# Altium footprint library 96BoardsComputeSoM.PcbLib: 2 footprints
Each footprint in its own frame and in the unit in brackets; x right, y up, seen from the top. Pads: shape width x height; smd on the part's side, far side on the other; paste and mask are expansions set on the pad; w line width, h text height; cw(c..) or ccw(c..) is an arc to the next point about the centre after c.
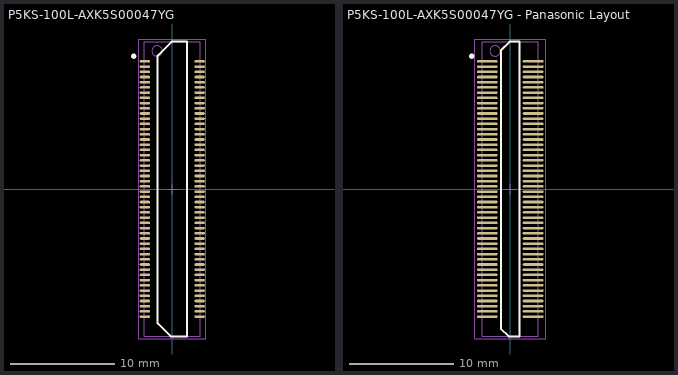
[diagram p0: the footprints below, top view; thin cyan lines are the x and y axes]

## P5KS-100L-AXK5S00047YG [mm] "Panasonic P5KS 0.5mm 100-pin Socket. No positioning bosses. Model AXK5S00047YG"
height 3.05
pads (100):
  oval 1x0.25 smd: 1(-2.625,12.25) 2(-2.625,11.75) 3(-2.625,11.25) 4(-2.625,10.75) 5(-2.625,10.25) 6(-2.625,9.75) 7(-2.625,9.25) 8(-2.625,8.75) 9(-2.625,8.25) 10(-2.625,7.75) 11(-2.625,7.25) 12(-2.625,6.75) 13(-2.625,6.25) 14(-2.625,5.75) 15(-2.625,5.25) 16(-2.625,4.75) 17(-2.625,4.25) 18(-2.625,3.75) 19(-2.625,3.25) 20(-2.625,2.75) 21(-2.625,2.25) 22(-2.625,1.75) 23(-2.625,1.25) 24(-2.625,0.75) 25(-2.625,0.25) 26(-2.625,-0.25) 27(-2.625,-0.75) 28(-2.625,-1.25) 29(-2.625,-1.75) 30(-2.625,-2.25) 31(-2.625,-2.75) 32(-2.625,-3.25) 33(-2.625,-3.75) 34(-2.625,-4.25) 35(-2.625,-4.75) 36(-2.625,-5.25) 37(-2.625,-5.75) 38(-2.625,-6.25) 39(-2.625,-6.75) 40(-2.625,-7.25) 41(-2.625,-7.75) 42(-2.625,-8.25) 43(-2.625,-8.75) 44(-2.625,-9.25) 45(-2.625,-9.75) 46(-2.625,-10.25) 47(-2.625,-10.75) 48(-2.625,-11.25) 49(-2.625,-11.75) 50(-2.625,-12.25) 51(2.625,12.25) 52(2.625,11.75) 53(2.625,11.25) 54(2.625,10.75) 55(2.625,10.25) 56(2.625,9.75) 57(2.625,9.25) 58(2.625,8.75) 59(2.625,8.25) 60(2.625,7.75) 61(2.625,7.25) 62(2.625,6.75) 63(2.625,6.25) 64(2.625,5.75) 65(2.625,5.25) 66(2.625,4.75) 67(2.625,4.25) 68(2.625,3.75) 69(2.625,3.25) 70(2.625,2.75) 71(2.625,2.25) 72(2.625,1.75) 73(2.625,1.25) 74(2.625,0.75) 75(2.625,0.25) 76(2.625,-0.25) 77(2.625,-0.75) 78(2.625,-1.25) 79(2.625,-1.75) 80(2.625,-2.25) 81(2.625,-2.75) 82(2.625,-3.25) 83(2.625,-3.75) 84(2.625,-4.25) 85(2.625,-4.75) 86(2.625,-5.25) 87(2.625,-5.75) 88(2.625,-6.25) 89(2.625,-6.75) 90(2.625,-7.25) 91(2.625,-7.75) 92(2.625,-8.25) 93(2.625,-8.75) 94(2.625,-9.25) 95(2.625,-9.75) 96(2.625,-10.25) 97(2.625,-10.75) 98(2.625,-11.25) 99(2.625,-11.75) 100(2.625,-12.25)
Top Overlay:
  circle w0.25: c-3.7,12.75 r0.125
  lines w0.2: -1.4,-12.9 -1.4,12.8 -0.05,14.15 1.4,14.15 1.4,-14.15 -0.15,-14.15 -1.4,-12.9
Mechanical 13:
  circle w0.1: c-1.45,13.25 r0.5
  lines w0.1: -2.7,-14.15 -2.7,14.15 2.7,14.15 2.7,-14.15 -2.7,-14.15
Mechanical 15:
  lines w0.05: -3.2,-14.4 -3.2,14.4 3.2,14.4 3.2,-14.4 -3.2,-14.4
  lines w0.1: -0.5,0 0.5,0 ; 0,-0.5 0,0.5
3D body "Panasonic.Socket.axk5s00047y.stp": height 3.05, standoff 0, extent -2.7,-14.1 2.7,14.1

## P5KS-100L-AXK5S00047YG - Panasonic Layout [mm] "Panasonic P5KS 0.5mm 100-pin Socket. No positioning bosses. Model AXK5S00047YG"
height 3.05
pads (100):
  oval 2x0.25 smd: 1(-2.2,12.25) 2(-2.2,11.75) 3(-2.2,11.25) 4(-2.2,10.75) 5(-2.2,10.25) 6(-2.2,9.75) 7(-2.2,9.25) 8(-2.2,8.75) 9(-2.2,8.25) 10(-2.2,7.75) 11(-2.2,7.25) 12(-2.2,6.75) 13(-2.2,6.25) 14(-2.2,5.75) 15(-2.2,5.25) 16(-2.2,4.75) 17(-2.2,4.25) 18(-2.2,3.75) 19(-2.2,3.25) 20(-2.2,2.75) 21(-2.2,2.25) 22(-2.2,1.75) 23(-2.2,1.25) 24(-2.2,0.75) 25(-2.2,0.25) 26(-2.2,-0.25) 27(-2.2,-0.75) 28(-2.2,-1.25) 29(-2.2,-1.75) 30(-2.2,-2.25) 31(-2.2,-2.75) 32(-2.2,-3.25) 33(-2.2,-3.75) 34(-2.2,-4.25) 35(-2.2,-4.75) 36(-2.2,-5.25) 37(-2.2,-5.75) 38(-2.2,-6.25) 39(-2.2,-6.75) 40(-2.2,-7.25) 41(-2.2,-7.75) 42(-2.2,-8.25) 43(-2.2,-8.75) 44(-2.2,-9.25) 45(-2.2,-9.75) 46(-2.2,-10.25) 47(-2.2,-10.75) 48(-2.2,-11.25) 49(-2.2,-11.75) 50(-2.2,-12.25) 51(2.2,12.25) 52(2.2,11.75) 53(2.2,11.25) 54(2.2,10.75) 55(2.2,10.25) 56(2.2,9.75) 57(2.2,9.25) 58(2.2,8.75) 59(2.2,8.25) 60(2.2,7.75) 61(2.2,7.25) 62(2.2,6.75) 63(2.2,6.25) 64(2.2,5.75) 65(2.2,5.25) 66(2.2,4.75) 67(2.2,4.25) 68(2.2,3.75) 69(2.2,3.25) 70(2.2,2.75) 71(2.2,2.25) 72(2.2,1.75) 73(2.2,1.25) 74(2.2,0.75) 75(2.2,0.25) 76(2.2,-0.25) 77(2.2,-0.75) 78(2.2,-1.25) 79(2.2,-1.75) 80(2.2,-2.25) 81(2.2,-2.75) 82(2.2,-3.25) 83(2.2,-3.75) 84(2.2,-4.25) 85(2.2,-4.75) 86(2.2,-5.25) 87(2.2,-5.75) 88(2.2,-6.25) 89(2.2,-6.75) 90(2.2,-7.25) 91(2.2,-7.75) 92(2.2,-8.25) 93(2.2,-8.75) 94(2.2,-9.25) 95(2.2,-9.75) 96(2.2,-10.25) 97(2.2,-10.75) 98(2.2,-11.25) 99(2.2,-11.75) 100(2.2,-12.25)
Top Overlay:
  circle w0.25: c-3.7,12.75 r0.125
  lines w0.2: -0.9,-13.4 -0.9,13.3 -0.05,14.15 0.9,14.15 0.9,-14.15 -0.15,-14.15 -0.9,-13.4
Mechanical 13:
  circle w0.1: c-1.45,13.25 r0.5
  lines w0.1: -2.7,-14.15 -2.7,14.15 2.7,14.15 2.7,-14.15 -2.7,-14.15
Mechanical 15:
  lines w0.05: -3.4,-14.4 -3.4,14.4 3.4,14.4 3.4,-14.4 -3.4,-14.4
  lines w0.1: -0.5,0 0.5,0 ; 0,-0.5 0,0.5
3D body "Panasonic.Socket.axk5s00047y.stp": height 3.05, standoff 0, extent -2.7,-14.1 2.7,14.1